# EAGLE library part MIC29302WU (library MIC29302WU)
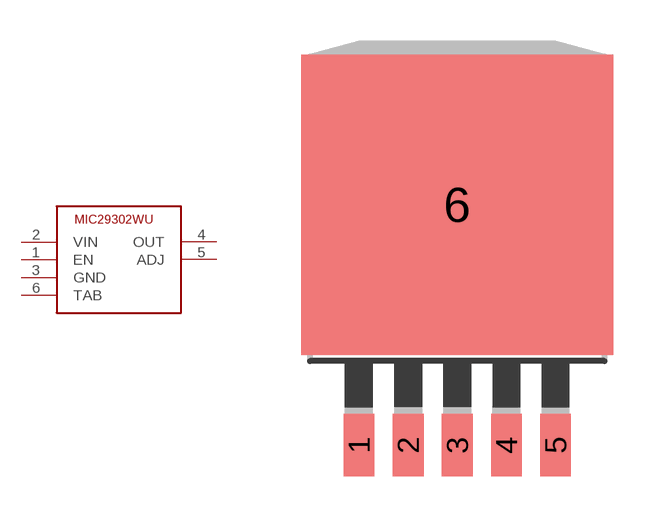
[diagram p0: symbol with the pads of TO263-5; footprint TO263-5]

Designator prefix IC

## MIC29302WU (Availability: Unavailable; Description: Linear Voltage Regulator IC 1 Output 3A TO-263-5; MF: Microchip Technology; MP: MIC29302WU; Package: TO-263-6 Microchip Technology; Price: None)  [TO263-5]
1  EN
2  VIN
3  GND
4  OUT
5  ADJ
6  TAB

## Footprint TO263-5 (pad centres in mm)
TO-263
smd 1.067 x 2.159: 1 -3.404,-5.791; 2 -1.702,-5.791; 3 0,-5.791; 4 1.702,-5.791; 5 3.404,-5.791
smd 10.8 x 10.41: 6 0,2.54